# Altium footprint library libreriaPcb.PcbLib: 683 footprints (part 37 of 44)
Each footprint in its own frame and in the unit in brackets; x right, y up, seen from the top. Pads: shape width x height; smd on the part's side, far side on the other; paste and mask are expansions set on the pad; w line width, h text height; cw(c..) or ccw(c..) is an arc to the next point about the centre after c.
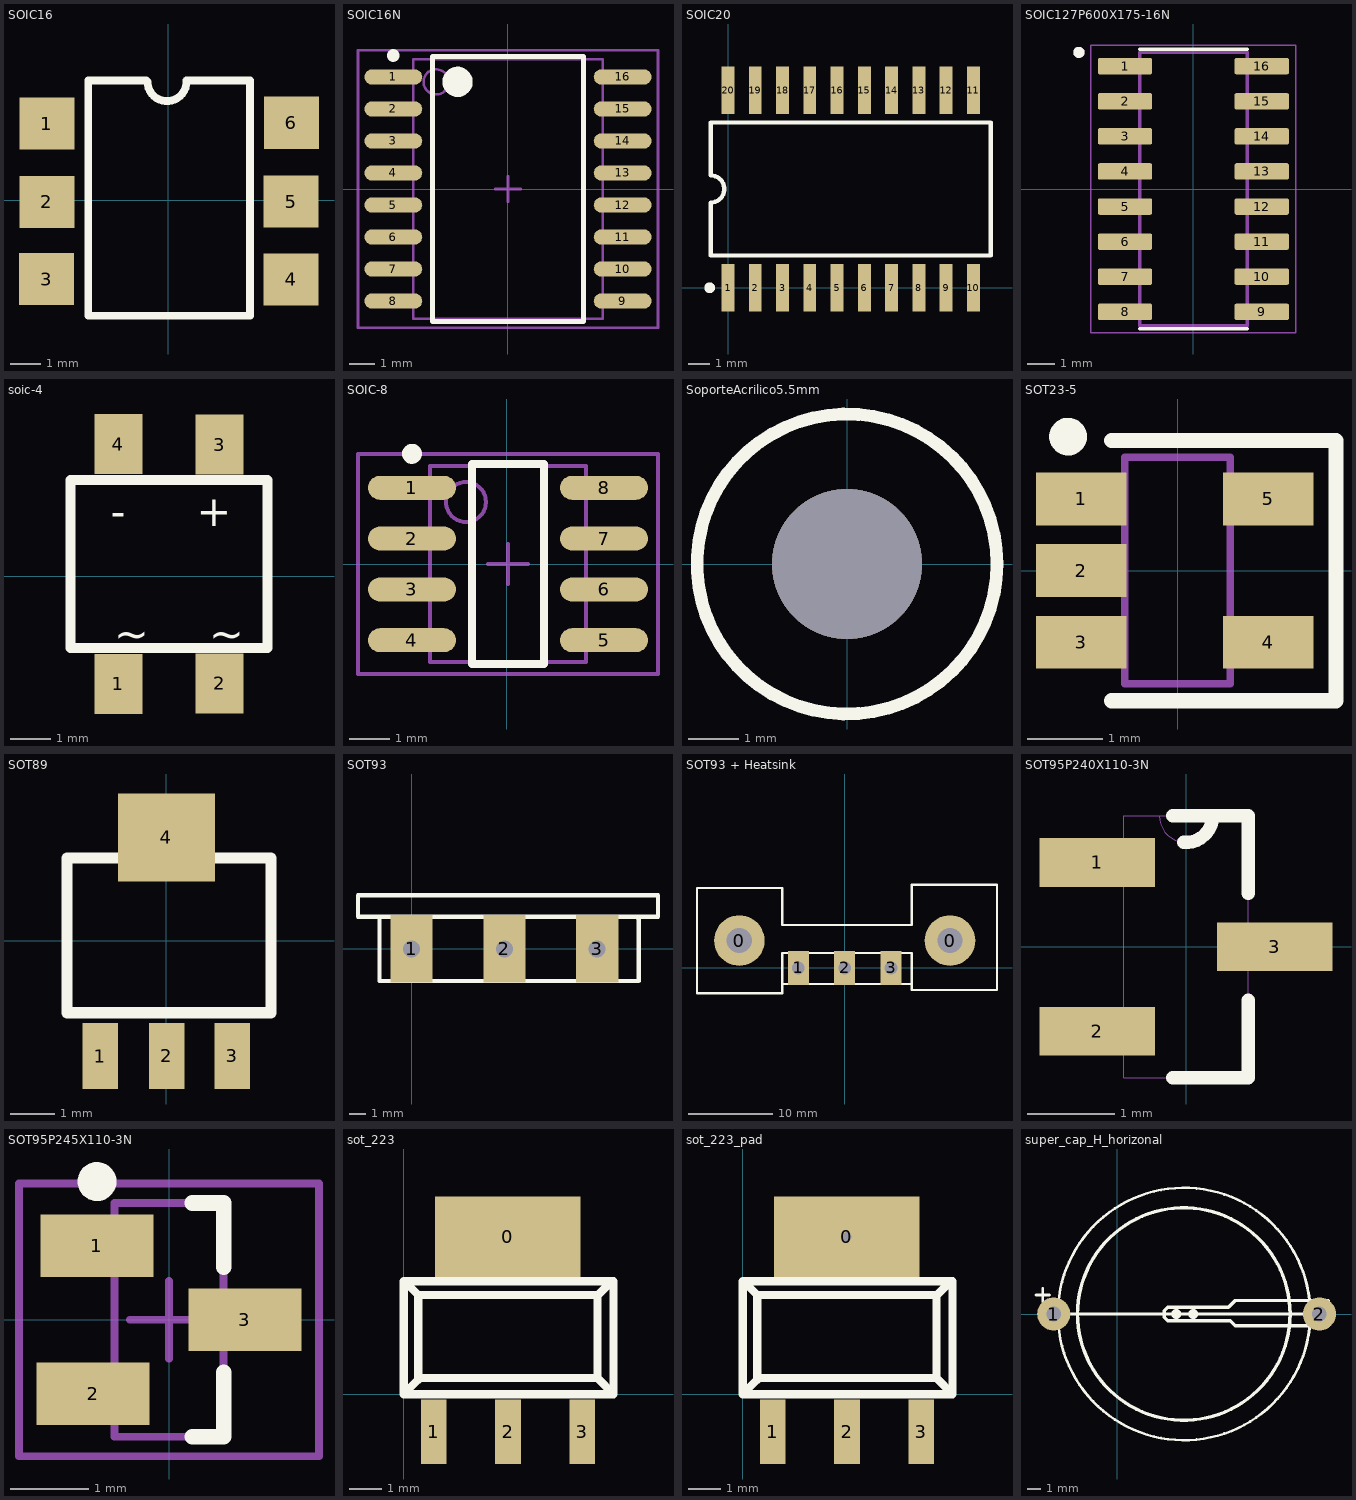
[diagram p36: the footprints below, top view; thin cyan lines are the x and y axes]

## SOIC16 [mm]
pads (6):
  rect 1.8x1.7 smd: 1(-3.96,2.5) 2(-3.96,-0.05) 3(-3.97,-2.57) 4(4.01,-2.58) 5(4.01,-0.04) 6(4.02,2.53)
Top Overlay:
  lines w0.254: -0.72,3.91 -2.61,3.91 -2.61,-3.77 2.67,-3.77 2.67,3.91 1.61,3.91 0.6,3.91 ; -0.676,3.871 ccw(c-0.041,3.871) 0.594,3.871
3D body: height 3, standoff 0, extent -2.737,-3.897 2.797,4.037

## SOIC16N [mm]
pads (16):
  oval 2.3x0.6 smd: 1(-4.55,4.445) 2(-4.55,3.175) 3(-4.55,1.905) 4(-4.55,0.635) 5(-4.55,-0.635) 6(-4.55,-1.905) 7(-4.55,-3.175) 8(-4.55,-4.445) 9(4.55,-4.445) 10(4.55,-3.175) 11(4.55,-1.905) 12(4.55,-0.635) 13(4.55,0.635) 14(4.55,1.905) 15(4.55,3.175) 16(4.55,4.445)
Top Overlay:
  circle w0.25: c-4.55,5.295 r0.125
  circle w0.6: c-2,4.25 r0.3
  lines w0.2: -3,-5.25 -3,5.25 3,5.25 3,-5.25 -3,-5.25
Mechanical 13:
  circle w0.1: c-2.85,4.25 r0.5
  lines w0.1: -3.75,-5.15 -3.75,5.15 3.75,5.15 3.75,-5.15 -3.75,-5.15
Mechanical 15:
  lines w0.1: -0.5,0 0.5,0 ; 0,-0.5 0,0.5 ; -5.95,-5.5 -5.95,5.5 5.95,5.5 5.95,-5.5 -5.95,-5.5
3D body: height 2.65, standoff 0, extent -3.75,-5.15 3.75,5.15

## SOIC20 [mm]
pads (20):
  rect 0.6x2.2 smd: 1(0,0) 2(1.27,0) 3(2.54,0) 4(3.81,0) 5(5.08,0) 6(6.35,0) 7(7.62,0) 8(8.89,0) 9(10.16,0) 10(11.43,0) 11(11.43,9.2) 12(10.16,9.2) 13(8.89,9.2) 14(7.62,9.2) 15(6.35,9.2) 16(5.08,9.2) 17(3.81,9.2) 18(2.54,9.2) 19(1.27,9.2) 20(0,9.2)
Top Overlay:
  circle w0.25: c-0.85,0 r0.125
  lines w0.2: -0.81,1.5 12.24,1.5 12.24,7.7 -0.81,7.7 -0.81,5.235 cw(c-0.81,4.6) -0.81,3.965 -0.81,1.5

## SOIC127P600X175-16N [mm]
pads (16):
  rrect25% 1.97x0.6 smd paste+0 mask+0.102: 1(-2.475,4.445) 2(-2.475,3.175) 3(-2.475,1.905) 4(-2.475,0.635) 5(-2.475,-0.635) 6(-2.475,-1.905) 7(-2.475,-3.175) 8(-2.475,-4.445) 9(2.475,-4.445) 10(2.475,-3.175) 11(2.475,-1.905) 12(2.475,-0.635) 13(2.475,0.635) 14(2.475,1.905) 15(2.475,3.175) 16(2.475,4.445)
Top Overlay:
  circle w0.2: c-4.145,4.945 r0.1
  lines w0.127: -1.95,-5.065 1.95,-5.065 ; -1.95,5.065 1.95,5.065
Mechanical 13:
  circle w0.2: c-4.145,4.945 r0.1
  lines w0.127: -1.95,-4.95 1.95,-4.95 1.95,4.95 -1.95,4.95 -1.95,-4.95
Mechanical 15:
  lines w0.05: -3.71,-5.2 3.71,-5.2 3.71,5.2 -3.71,5.2 -3.71,-5.2
3D body "step_temp.STEP": height 1.75, standoff 0, extent -3,-4.95 3,4.95

## soic-4 [mm]
pads (4):
  rect 1.2x1.5 smd: 1(-7.41,-2.68) 2(-4.89,-2.67) 3(-4.89,3.28) 4(-7.41,3.29)
Top Overlay:
  lines w0.254: -8.6,-0.424 -8.6,0.084 ; -8.6,-1.79 -3.7,-1.79 -3.7,2.4 -8.6,2.4 -8.6,-1.79
  text "~" at -5.15,-1.79 h0.75
  text "~" at -7.51,-1.79 h0.75
  text "-" at -7.6,1.25 h0.75
  text "+" at -5.46,1.25 h0.75
3D body: height 1, standoff 0, extent -8.599,-1.789 -3.701,2.399

## SOIC-8 [mm]
pads (8):
  oval 2.2x0.6 smd: 1(-2.375,1.905) 2(-2.375,0.635) 3(-2.375,-0.635) 4(-2.375,-1.905) 5(2.425,-1.905) 6(2.425,-0.635) 7(2.425,0.635) 8(2.425,1.905)
Top Overlay:
  circle w0.25: c-2.375,2.755 r0.125
  lines w0.2: -0.875,-2.5 0.925,-2.5 0.925,2.5 -0.875,2.5 -0.875,-2.5
Mechanical 13:
  circle w0.1: c-1.025,1.55 r0.5
  lines w0.1: -1.925,-2.45 1.975,-2.45 1.975,2.45 -1.925,2.45 -1.925,-2.45
Mechanical 15:
  lines w0.1: -0.475,0 0.525,0 ; 0.025,-0.5 0.025,0.5 ; -3.725,-2.75 3.775,-2.75 3.775,2.75 -3.725,2.75 -3.725,-2.75
3D body: height 1.75, standoff 0, extent -1.925,-2.45 1.975,2.45

## SoporteAcrilico5.5mm [mm]
via 0,0 diameter 3 hole 3
Top Overlay:
  circle w0.254: c0,0 r3

## SOT23-5 [mm]
height 1.1
pads (5):
  rect 1.2x0.7 smd: 1(-1.275,0.95) 2(-1.275,0) 3(-1.275,-0.95) 4(1.2,-0.95) 5(1.2,0.95)
Top Overlay:
  circle w0.25: c-1.45,1.775 r0.125
  lines w0.2: -0.875,-1.725 2.1,-1.725 2.1,-0.425 2.1,1.725 -0.875,1.725
Mechanical 13:
  lines w0.1: -0.7,-1.5 -0.7,1.5 0.7,1.5 0.7,-1.5 -0.7,-1.5
3D body: height 1.1, standoff 0.05, extent -0.7,-1.5 0.7,1.5

## SOT89 [mm]
pads (4):
  rect 0.8x1.5 smd: 1(-1.499,-2.623) 2(0.01,-2.62) 3(1.499,-2.619)
  rect 2.2x2 smd: 4(0.005,2.348)
Top Overlay:
  lines w0.254: -2.256,-1.641 -2.256,1.876 2.381,1.876 2.381,-1.641 -2.256,-1.641
3D body: height 2, standoff 0, extent -2.24,-1.695 2.318,1.941

## SOT93 [mm]
height 50
pads (3):
  rect 2.5x4 hole 1: 1(0,0) 2(5.5,0) 3(11,0)
Top Overlay:
  lines w0.254: -1.905,1.905 13.335,1.905 ; -1.905,1.905 -1.905,-1.905 13.462,-1.905 13.462,1.778 13.335,1.905 ; -1.905,1.905 -3.175,1.905 -3.175,3.175 14.605,3.175 14.605,1.905 13.335,1.905

## SOT93 + Heatsink [mm]
height 50
pads (5):
  round 6 hole 3: 0(-12.5,3.25) 0(12.5,3.25)
  rect 2.5x4 hole 1.5: 1(-5.5,0) 2(0,0) 3(5.5,0)
Top Overlay:
  lines w0.254: -7.405,-1.905 7.962,-1.905 ; 7.955,1.778 7.955,-2.622 18.075,-2.622 18.075,1.773 18.075,5.075 18.075,9.878 7.955,9.878 7.955,5.1 ; 7.962,1.778 -7.405,1.778 -7.405,-3 -17.525,-3 -17.525,1.803 -17.525,5.105 -17.525,9.5 -7.405,9.5 -7.405,5.1 7.962,5.1

## SOT95P240X110-3N [mil]
pads (3):
  rect 52x22 smd: 1(-40,38) 2(-40,-38) 3(40,0)
Top Overlay:
  lines w6: -6,-59 28,-59 28,-24 ; -6,59 12,59 28,59 28,24 ; -1.04,47 ccw(c0,58.96) 12,58.96
Mechanical 13:
  lines w0: -28,-48 -49,-48 -49,-28 -28,-28 ; -28,-48 -28,-28 ; -28,-48 -28,-59 28,-59 28,-10 ; -28,-28 -28,28 ; -28,28 -49,28 -49,48 -28,48 ; -28,28 -28,48 ; -28,48 -28,59 -12,59 ; -12,59 ccw(c0,59) 12,59 ; -12,59 12,59 ; 12,59 28,59 28,10 ; 28,-10 49,-10 49,10 28,10 ; 28,-10 28,10
3D body "step_temp.STEP": height 43.31, standoff 0, extent -49.21,-57.09 49.21,57.09

## SOT95P245X110-3N [mm] "SOT23, 3-Leads, Body 3,0x2,6mm (max), Pitch 0,95mm, IPC Medium Density"
height 1.1
pads (3):
  rect 1.45x0.8 smd: 1(-0.925,0.95) 2(-0.975,-0.95) 3(0.975,0)
Top Overlay:
  circle w0.25: c-0.925,1.775 r0.125
  lines w0.2: 0.3,-1.5 0.7,-1.5 0.7,-0.675 ; 0.3,1.5 0.7,1.5 0.7,0.675
Mechanical 13:
  lines w0.1: -0.7,-1.5 0.7,-1.5 0.7,1.5 -0.7,1.5 -0.7,-1.5
Mechanical 15:
  lines w0.1: -0.5,0 0.5,0 ; 0,-0.5 0,0.5 ; -1.925,-1.75 1.925,-1.75 1.925,1.75 -1.925,1.75 -1.925,-1.75
3D body: height 1.1, standoff 0.05, extent -0.7,-1.5 0.7,1.5

## sot_223 [mm]
pads (4):
  rect 4.5x2.5 smd: 0(3.22,4.88)
  rect 0.8x2 smd: 1(0.93,-1.16) 2(3.23,-1.16) 3(5.53,-1.16)
Top Overlay:
  lines w0.254: 0.45,0.5 6,0.5 ; 6.45,3.5 6.02,3.07 ; 6.48,0 6.5,0 ; 0,0 0,3.5 ; 0,0 6.5,0 ; 0,0 0.45,0.45 0.45,3.07 ; 0,3.5 6.5,3.5 6.5,0 ; 0,3.5 0.02,3.5 0.45,3.07 ; 0.45,3.07 6.02,3.07 ; 6,0.5 6.5,0 ; 6,0.5 6,3.05 6.02,3.07
3D body: height 1, standoff 0, extent -0.127,-0.127 6.68,3.627

## sot_223_pad [mm]
pads (4):
  rect 4.5x2.5 hole 0.3: 0(3.22,4.88)
  rect 0.8x2 smd: 1(0.93,-1.16) 2(3.23,-1.16) 3(5.53,-1.16)
Top Overlay:
  lines w0.254: 0.45,0.5 6,0.5 ; 6.45,3.5 6.02,3.07 ; 6.48,0 6.5,0 ; 0,0 0,3.5 ; 0,0 6.5,0 ; 0,0 0.45,0.45 0.45,3.07 ; 0,3.5 6.5,3.5 6.5,0 ; 0,3.5 0.02,3.5 0.45,3.07 ; 0.45,3.07 6.02,3.07 ; 6,0.5 6.5,0 ; 6,0.5 6,3.05 6.02,3.07
3D body: height 1, standoff 0, extent -0.127,-0.127 6.68,3.627

## super_cap_H_horizonal [mm]
height 5.5
pads (2):
  round 2.5 hole 1.1: 1(-4.775,0) 2(15.225,0)
Top Overlay:
  circle w0.2: c5.037,0 r9.5
  circle w0.254: c5.017,0 r8
  circle w0.254: c4.445,0 r0.254
  circle w0.254: c5.715,0 r0.254
  lines w0.2: -6.109,1.425 -5.093,1.425 ; -5.601,0.917 -5.601,1.933
  lines w0.254: -4.775,0 15.225,0 ; 3.556,-0.254 3.81,-0.508 8.509,-0.508 8.89,-0.889 15.9,-0.889 15.9,1.016 10.795,1.016 8.89,1.016 8.382,0.508 3.81,0.508 3.556,0.254 3.556,-0.254
3D body: height 6.7, standoff 6.2, extent -2.984,-7.998 13.016,7.998
3D body: height 6.2, standoff 0.2, extent -4.426,-9.497 14.574,9.497
3D body: height 0.2, standoff -1, extent -5.172,-0.399 -4.375,0.399
3D body: height 5.2, standoff -1, extent 14.798,-0.375 15.598,0.423
3D body: height 6.8, standoff 6.7, extent 3.575,-0.5 15.55,0.5